# EAGLE library part ESP-PSRAM64 (library ESP-PSRAM64)
ESP-PSRAM64
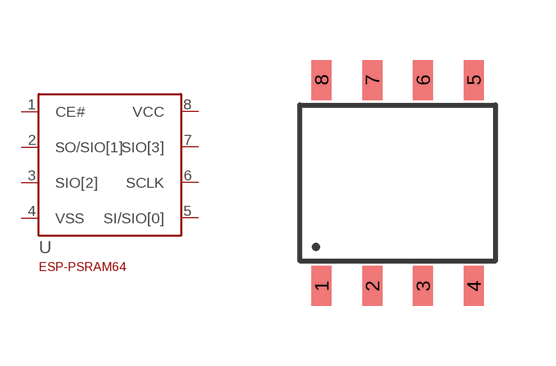
[diagram p0: symbol with the pads of SOT23-8; footprint SOT23-8]

Designator prefix -

## ESP-PSRAM64  [SOT23-8]
1  CE#
2  SO/SIO[1]
3  SIO[2]
4  VSS
5  SI/SIO[0]
6  SCLK
7  SIO[3]
8  VCC

## Footprint SOT23-8 (pad centres in mm)
Package SOP-8PP http://goo.gl/2DAeEi
smd 0.5 x 1: 1 -1.905,-2.58; 2 -0.635,-2.58; 3 0.635,-2.58; 4 1.905,-2.58; 5 1.905,2.58; 6 0.635,2.58; 7 -0.635,2.58; 8 -1.905,2.58